# EAGLE library part WT11-A (library Bluegiga)
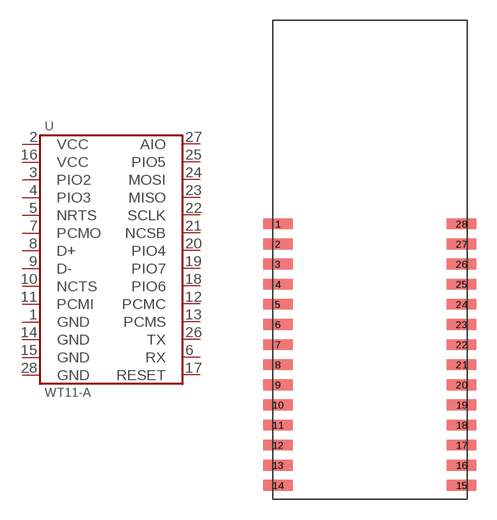
[diagram p0: symbol with the pads of WT11; footprint WT11]

Designator prefix U

## WT11-A  [WT11]
1  GND
2  VCC
3  PIO2
4  PIO3
5  NRTS
6  RX
7  PCMO
8  D+
9  D-
10  NCTS
11  PCMI
12  PCMC
13  PCMS
14  GND
15  GND
16  VCC
17  RESET
18  PIO6
19  PIO7
20  PIO4
21  NCSB
22  SCLK
23  MISO
24  MOSI
25  PIO5
26  TX
27  AIO
28  GND

## Footprint WT11 (pad centres in mm)
smd 2.2 x 0.8: 1 -6.85,2.675; 2 -6.85,1.175; 3 -6.85,-0.325; 4 -6.85,-1.825; 5 -6.85,-3.325; 6 -6.85,-4.825; 7 -6.85,-6.325; 8 -6.85,-7.825; 9 -6.85,-9.325; 10 -6.85,-10.825; 11 -6.85,-12.325; 12 -6.85,-13.825; 13 -6.85,-15.325; 14 -6.85,-16.825; 15 6.85,-16.825; 16 6.85,-15.325; 17 6.85,-13.825; 18 6.85,-12.325; 19 6.85,-10.825; 20 6.85,-9.325; 21 6.85,-7.825; 22 6.85,-6.325; 23 6.85,-4.825; 24 6.85,-3.325; 25 6.85,-1.825; 26 6.85,-0.325; 27 6.85,1.175; 28 6.85,2.675